# Altium schematic symbol library Res_YAGEO_RC0603JR-0747KL_47kOhm.SchLib: 1 symbol
Pins are listed as number, name and electrical type; pins without a type are passive.

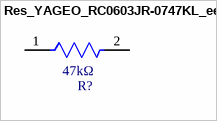
[diagram p0: symbol Res_YAGEO_RC0603JR-0747KL_eec]

## Res_YAGEO_RC0603JR-0747KL_eec
designator R?  Resistance: 47kΩ
RES SMD 47K OHM 5% 1/10W 0603; Part Number: RC0603JR-0747KL; Manufacturer: YAGEO; Value: 47kΩ; Mfg Package Ident: RC0603; helpURL: https://upverter.com/upn/revision/72a098faf35b2531/; ComponentLink2Description: Datasheet; Temperature: -55°C to +155°C; Package: RC0603; Supplier 2: Mouser; Price: 0.00484375007179; Supplier 1: Digi-Key; ComponentLink1URL: https://upverter.com/upn/revision/72a098faf35b2531/; Supplier Part Number 2: 603-RC0603JR-0747KL; Supplier Part Number 1: 311-47KGRCT-ND; ComponentLink1Description: Upverter; ComponentLink2URL: http://www.mouser.com/ds/2/447/RC0603-272842.pdf; RoHS: TRUE; Mouser Part Number: 603-RC0603JR-0747KL; Temperature Range High: +155°C; Digikey Description: RES SMD 47K OHM 5% 1/10W 0603; Digikey Part Number: 311-47KGRCT-ND; Lead Free: yes; Temperature Range Low: -55°C
footprint YAGEO_RC0603_0
pins: 1, 2